# Altium schematic symbol library STM8.SchLib: 3 symbols
Pins are listed as number, name and electrical type; pins without a type are passive.

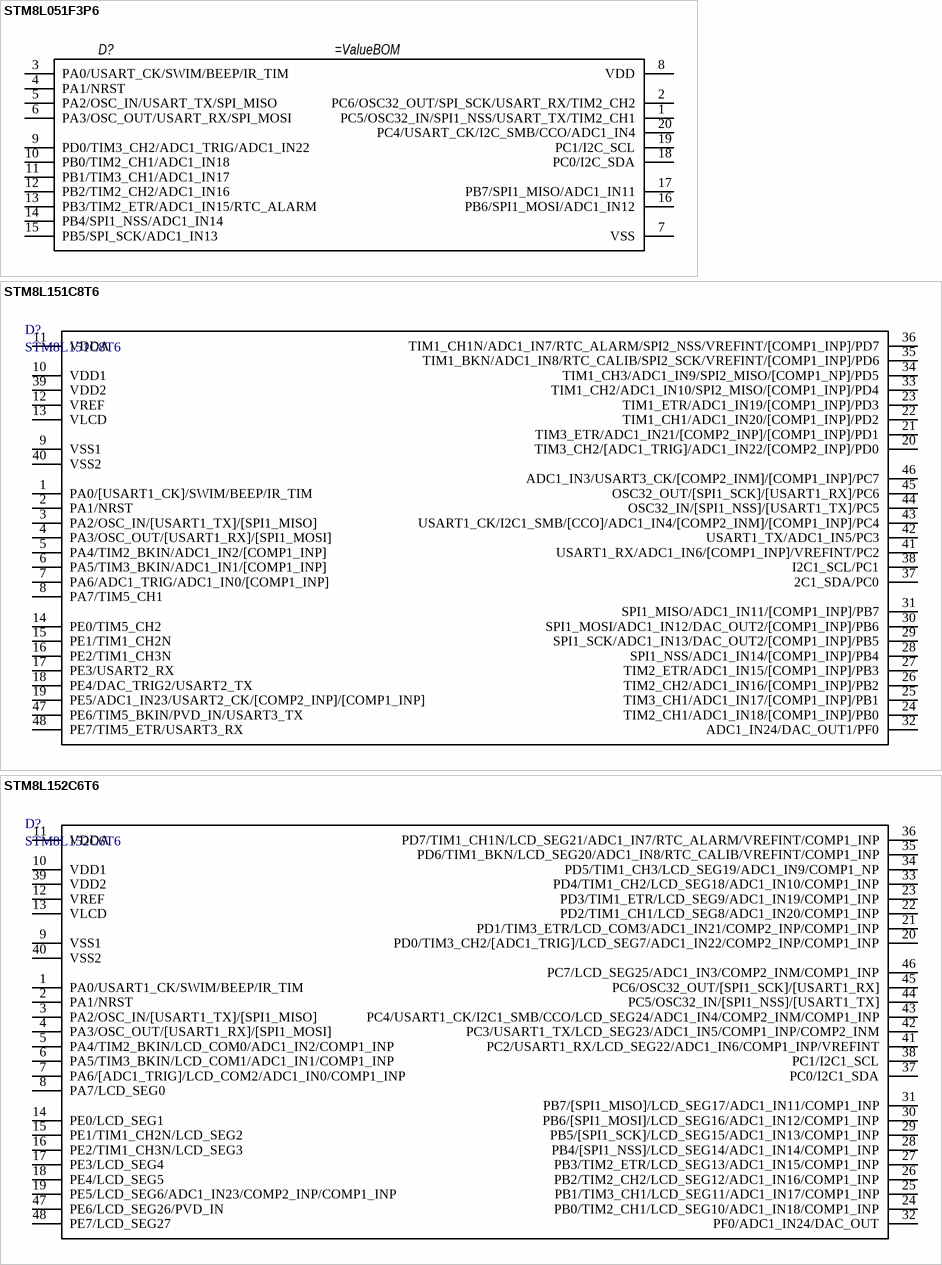
[diagram p0: symbols STM8L051F3P6 to STM8L152C6T6]

## STM8L051F3P6
designator D?
pins: 1 PC5/OSC32_IN/SPI1_NSS/USART_TX/TIM2_CH1, 2 PC6/OSC32_OUT/SPI_SCK/USART_RX/TIM2_CH2, 3 PA0/USART_CK/SWIM/BEEP/IR_TIM, 4 PA1/NRST, 5 PA2/OSC_IN/USART_TX/SPI_MISO, 6 PA3/OSC_OUT/USART_RX/SPI_MOSI, 7 VSS, 8 VDD, 9 PD0/TIM3_CH2/ADC1_TRIG/ADC1_IN22, 10 PB0/TIM2_CH1/ADC1_IN18, 11 PB1/TIM3_CH1/ADC1_IN17, 12 PB2/TIM2_CH2/ADC1_IN16, 13 PB3/TIM2_ETR/ADC1_IN15/RTC_ALARM, 14 PB4/SPI1_NSS/ADC1_IN14, 15 PB5/SPI_SCK/ADC1_IN13, 16 PB6/SPI1_MOSI/ADC1_IN12, 17 PB7/SPI1_MISO/ADC1_IN11, 18 PC0/I2C_SDA, 19 PC1/I2C_SCL, 20 PC4/USART_CK/I2C_SMB/CCO/ADC1_IN4

## STM8L151C8T6
designator D?
footprint LQFP48 (LQFP, 48-Leads, Body 7,00x7,00mm, Pitch 0,50mm, IPC Medium Density)
pins: 1 PA0/[USART1_CK]/SWIM/BEEP/IR_TIM, 2 PA1/NRST, 3 PA2/OSC_IN/[USART1_TX]/[SPI1_MISO], 4 PA3/OSC_OUT/[USART1_RX]/[SPI1_MOSI], 5 PA4/TIM2_BKIN/ADC1_IN2/[COMP1_INP], 6 PA5/TIM3_BKIN/ADC1_IN1/[COMP1_INP], 7 PA6/ADC1_TRIG/ADC1_IN0/[COMP1_INP], 8 PA7/TIM5_CH1, 9 VSS1, 10 VDD1, 11 VDDA, 12 VREF, 13 VLCD, 14 PE0/TIM5_CH2, 15 PE1/TIM1_CH2N, 16 PE2/TIM1_CH3N, 17 PE3/USART2_RX, 18 PE4/DAC_TRIG2/USART2_TX, 19 PE5/ADC1_IN23/USART2_CK/[COMP2_INP]/[COMP1_INP], 20 TIM3_CH2/[ADC1_TRIG]/ADC1_IN22/[COMP2_INP]/PD0, 21 TIM3_ETR/ADC1_IN21/[COMP2_INP]/[COMP1_INP]/PD1, 22 TIM1_CH1/ADC1_IN20/[COMP1_INP]/PD2, 23 TIM1_ETR/ADC1_IN19/[COMP1_INP]/PD3, 24 TIM2_CH1/ADC1_IN18/[COMP1_INP]/PB0, 25 TIM3_CH1/ADC1_IN17/[COMP1_INP]/PB1, 26 TIM2_CH2/ADC1_IN16/[COMP1_INP]/PB2, 27 TIM2_ETR/ADC1_IN15/[COMP1_INP]/PB3, 28 SPI1_NSS/ADC1_IN14/[COMP1_INP]/PB4, 29 SPI1_SCK/ADC1_IN13/DAC_OUT2/[COMP1_INP]/PB5, 30 SPI1_MOSI/ADC1_IN12/DAC_OUT2/[COMP1_INP]/PB6, 31 SPI1_MISO/ADC1_IN11/[COMP1_INP]/PB7, 32 ADC1_IN24/DAC_OUT1/PF0, 33 TIM1_CH2/ADC1_IN10/SPI2_MISO/[COMP1_INP]/PD4, 34 TIM1_CH3/ADC1_IN9/SPI2_MISO/[COMP1_NP]/PD5, 35 TIM1_BKN/ADC1_IN8/RTC_CALIB/SPI2_SCK/VREFINT/[COMP1_INP]/PD6, 36 TIM1_CH1N/ADC1_IN7/RTC_ALARM/SPI2_NSS/VREFINT/[COMP1_INP]/PD7, 37 2C1_SDA/PC0, 38 I2C1_SCL/PC1, 39 VDD2, 40 VSS2, 41 USART1_RX/ADC1_IN6/[COMP1_INP]/VREFINT/PC2, 42 USART1_TX/ADC1_IN5/PC3, 43 USART1_CK/I2C1_SMB/[CCO]/ADC1_IN4/[COMP2_INM]/[COMP1_INP]/PC4, 44 OSC32_IN/[SPI1_NSS]/[USART1_TX]/PC5, 45 OSC32_OUT/[SPI1_SCK]/[USART1_RX]/PC6, 46 ADC1_IN3/USART3_CK/[COMP2_INM]/[COMP1_INP]/PC7, 47 PE6/TIM5_BKIN/PVD_IN/USART3_TX, 48 PE7/TIM5_ETR/USART3_RX

## STM8L152C6T6
designator D?
footprint LQFP48 (LQFP, 48-Leads, Body 7,00x7,00mm, Pitch 0,50mm, IPC Medium Density)
pins: 1 PA0/USART1_CK/SWIM/BEEP/IR_TIM, 2 PA1/NRST, 3 PA2/OSC_IN/[USART1_TX]/[SPI1_MISO], 4 PA3/OSC_OUT/[USART1_RX]/[SPI1_MOSI], 5 PA4/TIM2_BKIN/LCD_COM0/ADC1_IN2/COMP1_INP, 6 PA5/TIM3_BKIN/LCD_COM1/ADC1_IN1/COMP1_INP, 7 PA6/[ADC1_TRIG]/LCD_COM2/ADC1_IN0/COMP1_INP, 8 PA7/LCD_SEG0, 9 VSS1, 10 VDD1, 11 VDDA, 12 VREF, 13 VLCD, 14 PE0/LCD_SEG1, 15 PE1/TIM1_CH2N/LCD_SEG2, 16 PE2/TIM1_CH3N/LCD_SEG3, 17 PE3/LCD_SEG4, 18 PE4/LCD_SEG5, 19 PE5/LCD_SEG6/ADC1_IN23/COMP2_INP/COMP1_INP, 20 PD0/TIM3_CH2/[ADC1_TRIG]/LCD_SEG7/ADC1_IN22/COMP2_INP/COMP1_INP, 21 PD1/TIM3_ETR/LCD_COM3/ADC1_IN21/COMP2_INP/COMP1_INP, 22 PD2/TIM1_CH1/LCD_SEG8/ADC1_IN20/COMP1_INP, 23 PD3/TIM1_ETR/LCD_SEG9/ADC1_IN19/COMP1_INP, 24 PB0/TIM2_CH1/LCD_SEG10/ADC1_IN18/COMP1_INP, 25 PB1/TIM3_CH1/LCD_SEG11/ADC1_IN17/COMP1_INP, 26 PB2/TIM2_CH2/LCD_SEG12/ADC1_IN16/COMP1_INP, 27 PB3/TIM2_ETR/LCD_SEG13/ADC1_IN15/COMP1_INP, 28 PB4/[SPI1_NSS]/LCD_SEG14/ADC1_IN14/COMP1_INP, 29 PB5/[SPI1_SCK]/LCD_SEG15/ADC1_IN13/COMP1_INP, 30 PB6/[SPI1_MOSI]/LCD_SEG16/ADC1_IN12/COMP1_INP, 31 PB7/[SPI1_MISO]/LCD_SEG17/ADC1_IN11/COMP1_INP, 32 PF0/ADC1_IN24/DAC_OUT, 33 PD4/TIM1_CH2/LCD_SEG18/ADC1_IN10/COMP1_INP, 34 PD5/TIM1_CH3/LCD_SEG19/ADC1_IN9/COMP1_NP, 35 PD6/TIM1_BKN/LCD_SEG20/ADC1_IN8/RTC_CALIB/VREFINT/COMP1_INP, 36 PD7/TIM1_CH1N/LCD_SEG21/ADC1_IN7/RTC_ALARM/VREFINT/COMP1_INP, 37 PC0/I2C1_SDA, 38 PC1/I2C1_SCL, 39 VDD2, 40 VSS2, 41 PC2/USART1_RX/LCD_SEG22/ADC1_IN6/COMP1_INP/VREFINT, 42 PC3/USART1_TX/LCD_SEG23/ADC1_IN5/COMP1_INP/COMP2_INM, 43 PC4/USART1_CK/I2C1_SMB/CCO/LCD_SEG24/ADC1_IN4/COMP2_INM/COMP1_INP, 44 PC5/OSC32_IN/[SPI1_NSS]/[USART1_TX], 45 PC6/OSC32_OUT/[SPI1_SCK]/[USART1_RX], 46 PC7/LCD_SEG25/ADC1_IN3/COMP2_INM/COMP1_INP, 47 PE6/LCD_SEG26/PVD_IN, 48 PE7/LCD_SEG27